# EAGLE library part ISO150U (library burr-brown)
Dual, Isolated, Bi-Directional Digital Coupler
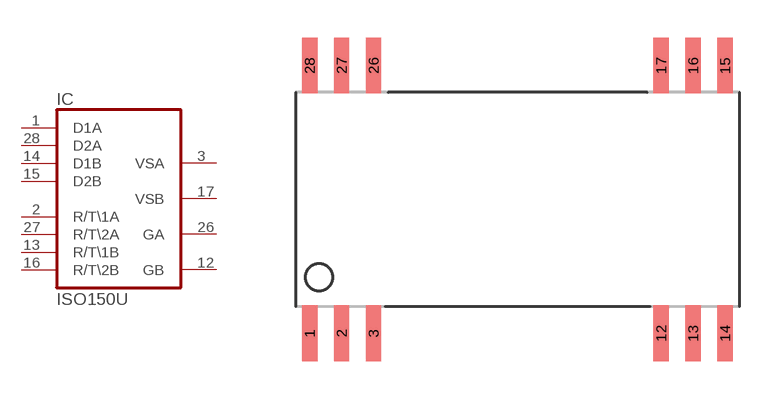
[diagram p275: symbol with the pads of SO28/12; footprint SO28/12]

Designator prefix IC

## ISO150U  [SO28/12]
1  D1A
2  R/T\1A  in
3  VSA  pwr
12  GB  pwr
13  R/T\1B  in
14  D1B
15  D2B
16  R/T\2B  in
17  VSB  pwr
26  GA  pwr
27  R/T\2A  in
28  D2A

## Footprint SO28/12 (pad centres in mm)
smd 0.61 x 2.21: 1 -8.255,-5.315; 2 -6.985,-5.315; 3 -5.715,-5.315; 12 5.715,-5.315; 13 6.985,-5.315; 14 8.255,-5.315; 15 8.255,5.315; 16 6.985,5.315; 17 5.715,5.315; 26 -5.715,5.315; 27 -6.985,5.315; 28 -8.255,5.315